# EAGLE library part OPENMV2 (library openmv)
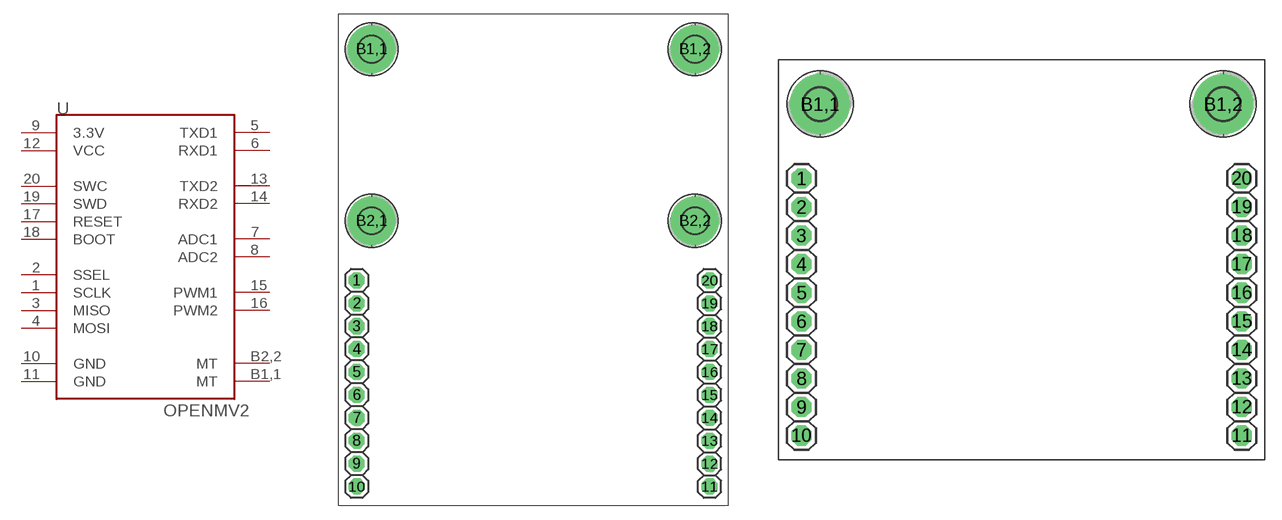
[diagram p1: symbol with the pads of OPENMV2; footprints OPENMV2, OPENMV2-TOP]

Designator prefix -

## OPENMV2FULL  [OPENMV2]
1  SCLK
2  SSEL
3  MISO
4  MOSI
5  TXD1
6  RXD1
7  ADC1
8  ADC2
9  3.3V  sup
10  GND  pwr
11  GND  pwr
12  VCC  pwr
13  TXD2
14  RXD2
15  PWM1
16  PWM2
17  RESET
18  BOOT
19  SWD
20  SWC
B1,1  MT  sup
B2,2  MT  sup

## OPENMV2HALF  [OPENMV2-TOP]
1  SCLK
2  SSEL
3  MISO
4  MOSI
5  TXD1
6  RXD1
7  ADC1
8  ADC2
9  3.3V  sup
10  GND  pwr
11  GND  pwr
12  VCC  pwr
13  TXD2
14  RXD2
15  PWM1
16  PWM2
17  RESET
18  BOOT
19  SWD
20  SWC
B1,1  MT  sup
B1,2  MT  sup

## OPENMV22MNT  [OPENMV2-2MNT]
1  SCLK
2  SSEL
3  MISO
4  MOSI
5  TXD1
6  RXD1
7  ADC1
8  ADC2
9  3.3V  sup
10  GND  pwr
11  GND  pwr
12  VCC  pwr
13  TXD2
14  RXD2
15  PWM1
16  PWM2
17  RESET
18  BOOT
19  SWD
20  SWC
B1,1  MT  sup
B1,2  MT  sup

## Footprint OPENMV2 (pad centres in mm)
drill 1.016 pad 1.778 octagon: 1 2.032,25.019; 2 2.032,22.479; 3 2.032,19.939; 4 2.032,17.399; 5 2.032,14.859; 6 2.032,12.319; 7 2.032,9.779; 8 2.032,7.239; 9 2.032,4.699; 10 2.032,2.159; 11 41.148,2.159; 12 41.148,4.699; 13 41.148,7.239; 14 41.148,9.779; 15 41.148,12.319; 16 41.148,14.859; 17 41.148,17.399; 18 41.148,19.939; 19 41.148,22.479; 20 41.148,25.019
drill 2.8 pad 5.334: B1,1 3.683,50.673; B1,2 39.497,50.673; B2,1 3.683,31.623; B2,2 39.497,31.623

## Footprint OPENMV2-TOP (pad centres in mm)
drill 1.016 pad 1.778 octagon: 1 2.032,25.019; 2 2.032,22.479; 3 2.032,19.939; 4 2.032,17.399; 5 2.032,14.859; 6 2.032,12.319; 7 2.032,9.779; 8 2.032,7.239; 9 2.032,4.699; 10 2.032,2.159; 11 41.148,2.159; 12 41.148,4.699; 13 41.148,7.239; 14 41.148,9.779; 15 41.148,12.319; 16 41.148,14.859; 17 41.148,17.399; 18 41.148,19.939; 19 41.148,22.479; 20 41.148,25.019
drill 2.8 pad 5.334: B1,1 3.683,31.623; B1,2 39.497,31.623

## Footprint OPENMV2-2MNT (pad centres in mm)
drill 1.016 pad 1.778 octagon: 1 2.032,25.019; 2 2.032,22.479; 3 2.032,19.939; 4 2.032,17.399; 5 2.032,14.859; 6 2.032,12.319; 7 2.032,9.779; 8 2.032,7.239; 9 2.032,4.699; 10 2.032,2.159; 11 41.148,2.159; 12 41.148,4.699; 13 41.148,7.239; 14 41.148,9.779; 15 41.148,12.319; 16 41.148,14.859; 17 41.148,17.399; 18 41.148,19.939; 19 41.148,22.479; 20 41.148,25.019
drill 2.8 pad 5.334: B1,1 3.683,50.673; B1,2 39.497,50.673